# Altium schematic symbol library Thermistor PTC.Schlib: 1 symbol
Pins are listed as number, name and electrical type; pins without a type are passive.

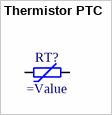
[diagram p0: symbol Thermistor PTC]

## Thermistor PTC
designator RT?
Thermistor NTC (Positive Temperature Coefficient)
pins: 1, 2